# Altium schematic symbol library SCH - POWER - SWITCHMODE - TI TPS65190_RHD_28.SchLib: 1 symbol
Pins are listed as number, name and electrical type; pins without a type are passive.

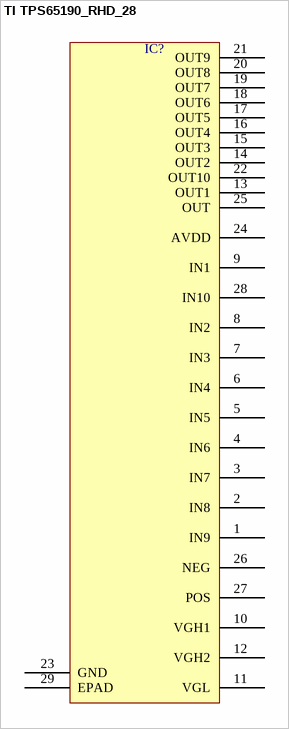
[diagram p0: symbol TI TPS65190_RHD_28]

## TI TPS65190_RHD_28
designator IC?  (value not drawn)
pins: 1 IN9, 2 IN8, 3 IN7, 4 IN6, 5 IN5, 6 IN4, 7 IN3, 8 IN2, 9 IN1, 10 VGH1, 11 VGL, 12 VGH2, 13 OUT1, 14 OUT2, 15 OUT3, 16 OUT4, 17 OUT5, 18 OUT6, 19 OUT7, 20 OUT8, 21 OUT9, 22 OUT10, 23 GND, 24 AVDD, 25 OUT, 26 NEG, 27 POS, 28 IN10, 29 EPAD